# Altium footprint library IC_Microchip_USB2514B-I-M2_eec_IPC_C.PcbLib: 1 footprints
Each footprint in its own frame and in the unit in brackets; x right, y up, seen from the top. Pads: shape width x height; smd on the part's side, far side on the other; paste and mask are expansions set on the pad; w line width, h text height; cw(c..) or ccw(c..) is an arc to the next point about the centre after c.
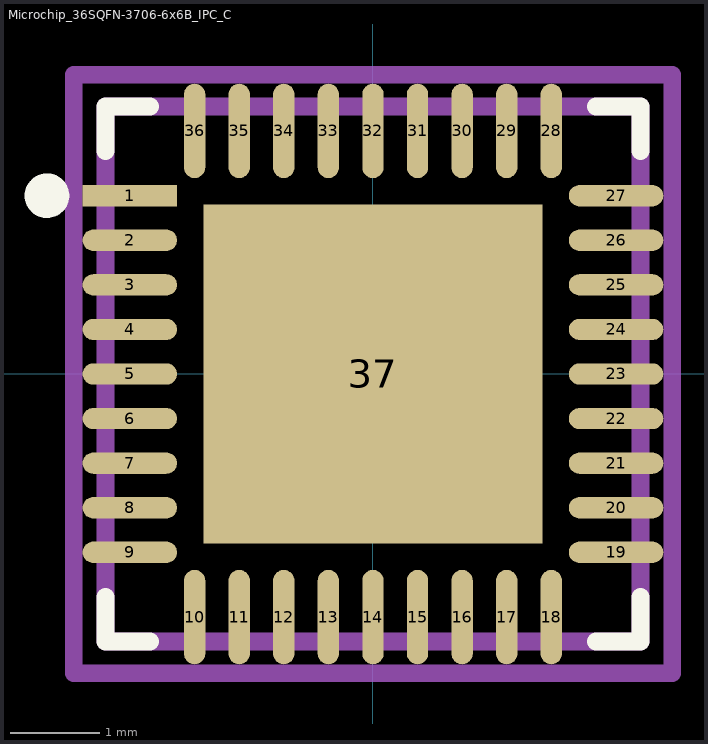
[diagram p0: the footprint, top view; thin cyan lines are the x and y axes]

## Microchip_36SQFN-3706-6x6B_IPC_C [mm]
pads (37):
  rect 1.059x0.239 smd paste+0 mask+0: 1(-2.727,2)
  rrect100% 1.059x0.239 smd paste+0 mask+0: 2(-2.727,1.5) 3(-2.727,1) 4(-2.727,0.5) 5(-2.727,0) 6(-2.727,-0.5) 7(-2.727,-1) 8(-2.727,-1.5) 9(-2.727,-2) 19(2.727,-2) 20(2.727,-1.5) 21(2.727,-1) 22(2.727,-0.5) 23(2.727,0) 24(2.727,0.5) 25(2.727,1) 26(2.727,1.5) 27(2.727,2)
  rrect100% 0.239x1.059 smd paste+0 mask+0: 10(-2,-2.727) 11(-1.5,-2.727) 12(-1,-2.727) 13(-0.5,-2.727) 14(0,-2.727) 15(0.5,-2.727) 16(1,-2.727) 17(1.5,-2.727) 18(2,-2.727) 28(2,2.727) 29(1.5,2.727) 30(1,2.727) 31(0.5,2.727) 32(0,2.727) 33(-0.5,2.727) 34(-1,2.727) 35(-1.5,2.727) 36(-2,2.727)
  rect 3.8x3.8 smd paste-1000 mask+0: 37(0,0)
Top Overlay:
  circle w0.25: c-3.656,2 r0.125
  lines w0.2: -3,-2.5 -3,-3 -2.5,-3 ; -3,2.5 -3,3 -2.5,3 ; 2.5,-3 3,-3 3,-2.5 ; 2.5,3 3,3 3,2.5
Top Paste:
  rectangle: -1.202,-1.202 1.202,1.202
Mechanical 10:
  lines w0.2: -3.356,-3.356 3.356,-3.356 3.356,3.356 -3.356,3.356 -3.356,-3.356
  text ".Designator" at 0,0.188 h1
Mechanical 12:
  lines w0.2: -3,-3 3,-3 3,3 -3,3 -3,-3
Mechanical 15:
  lines w0.1: -0.5,0 0.5,0 ; 0,-0.5 0,0.5
  lines w0.2: -3.356,-3.356 3.356,-3.356 3.356,3.356 -3.356,3.356 -3.356,-3.356
3D body "IC_Microchip_USB2514B-I-M2_eec.STEP": height 0.25, standoff 0, extent -3.356,-3.356 3.356,3.356